# Altium schematic symbol library GP1S094HCZ0F.SchLib: 1 symbol
Pins are listed as number, name and electrical type; pins without a type are passive.

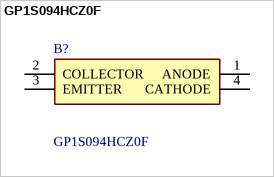
[diagram p0: symbol GP1S094HCZ0F]

## GP1S094HCZ0F
designator B?
Sharp GP1S094HCZ0F Through Hole Slotted Optical Switch, Phototransistor Output; Manufacturer_Name: Sharp Microelectronics; Geometry.Height: 4.8mm; Manufacturer_Part_Number: GP1S094HCZ0F; Mouser Part Number: 852-GP1S094HCZ0F; Mouser Price/Stock: https://www.mouser.co.uk/ProductDetail/Sharp-Microelectronics/GP1S094HCZ0F?qs=5S%2F4hkdqNNdHndqaaxcjaw%3D%3D; Arrow Part Number: GP1S094HCZ0F; Arrow Price/Stock: https://www.arrow.com/en/products/gp1s094hcz0f/sharp?region=europe; Datasheet Link: http://www.sharp-world.com/products/device/lineup/data/pdf/datasheet/gp1s094hcz_e.pdf
footprint GP1S094HCZ0F
pins: 1 ANODE, 2 COLLECTOR, 3 EMITTER, 4 CATHODE